# EAGLE library part PAM2803 (library dword1511-pmic-dcdc)
3W Single Cell High Power LED Driver
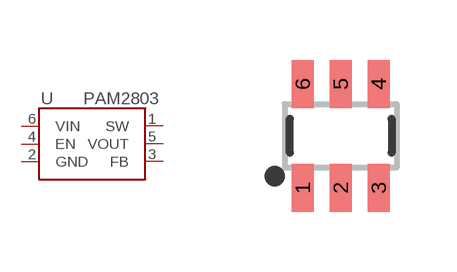
[diagram p24: symbol with the pads of SOT-23-6; footprint SOT-23-6]

Designator prefix U

## PAM2803AAF095  [SOT-23-6]
1  SW  out
2  GND  pwr
3  FB  in
4  EN  in
5  VOUT  in
6  VIN  pwr

## Footprint SOT-23-6 (pad centres in mm)
smd 0.55 x 1.2: 1 -0.95,-1.3; 2 0,-1.3; 3 0.95,-1.3; 4 0.95,1.3; 5 0,1.3; 6 -0.95,1.3